# Altium integrated library ADP198ACPZ-R7.IntLib: 1 symbol
Pins are listed as number, name and electrical type; pins without a type are passive.

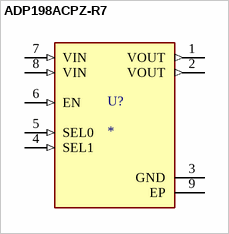
[diagram p0: symbol ADP198ACPZ-R7]

## ADP198ACPZ-R7
designator U?
Logic-Controlled, 1 A, High-Side Load Switch with Reverse Current Blocking; MP: ADP198ACPZ-R7; MF: Analog Devices; Availability: In Stock; Price: None; Check_prices: https://www.snapeda.com/parts/ADP198ACPZ-R7/Analog+Devices/view-part/?ref=eda; Value: *; SnapEDA_Link: https://www.snapeda.com/parts/ADP198ACPZ-R7/Analog+Devices/view-part/?ref=snap; Purchase-URL: https://pricing.snapeda.com/search/part/ADP198ACPZ-R7/?ref=eda; Package: LFCSP -8 Analog Devices
footprint SON50P200X200X65-9N
pins: 1 VOUT (out), 2 VOUT (out), 3 GND (power), 4 SEL1 (in), 5 SEL0 (in), 6 EN (in), 7 VIN (in), 8 VIN (in), 9 EP (power)